# EAGLE library part BOXHD-20 (library omcConnector)
Box Header 2X10 Terminals: 20 Rows: 2
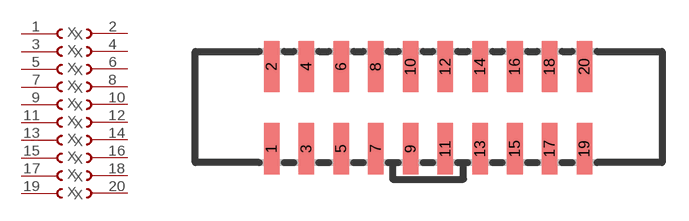
[diagram p6: symbol with the pads of BOXHD-20-2.00-S; footprint BOXHD-20-2.00-S]

Designator prefix X; gates 1=PHDL 3=PHDL 5=PHDL 2=PHDR 4=PHDR 6=PHDR 7=PHDL 8=PHDR 9=PHDL 10=PHDR 11=PHDL 12=PHDR 13=PHDL 14=PHDR 15=PHDL 16=PHDR 17=PHDL 18=PHDR 19=PHDL 20=PHDR

## BOXHD-20-2.00 (DIST#REICHELT#: WSL 2X10SMD 2,00; VALUE: Box Header)  [BOXHD-20-2.00-S]
1  1:P$1
2  2:P$1
3  3:P$1
4  4:P$1
5  5:P$1
6  6:P$1
7  7:P$1
8  8:P$1
9  9:P$1
10  10:P$1
11  11:P$1
12  12:P$1
13  13:P$1
14  14:P$1
15  15:P$1
16  16:P$1
17  17:P$1
18  18:P$1
19  19:P$1
20  20:P$1

## Footprint BOXHD-20-2.00-S (pad centres in mm)
Box Header 2X10 - Straight Technology: SMD Pitch: 2.00mm Mechanical Reference (Reichelt) <http://cdn-reichelt.de/documents/datenblatt/C151/WSL2X13_SMD2_00.pdf>
smd 0.889 x 2.921: 1 -8.89,-2.381; 2 -8.89,2.302; 3 -6.906,-2.381; 4 -6.906,2.302; 5 -4.921,-2.381; 6 -4.921,2.302; 7 -2.937,-2.381; 8 -2.937,2.302; 9 -0.953,-2.381; 10 -0.953,2.302; 11 1.032,-2.381; 12 1.032,2.302; 13 3.016,-2.381; 14 3.016,2.302; 15 5.001,-2.381; 16 5.001,2.302; 17 6.985,-2.381; 18 6.985,2.302; 19 8.969,-2.381; 20 8.969,2.302